# Altium footprint library ST-Link-V2.1.PcbLib: 14 footprints
Each footprint in its own frame and in the unit in brackets; x right, y up, seen from the top. Pads: shape width x height; smd on the part's side, far side on the other; paste and mask are expansions set on the pad; w line width, h text height; cw(c..) or ccw(c..) is an arc to the next point about the centre after c.
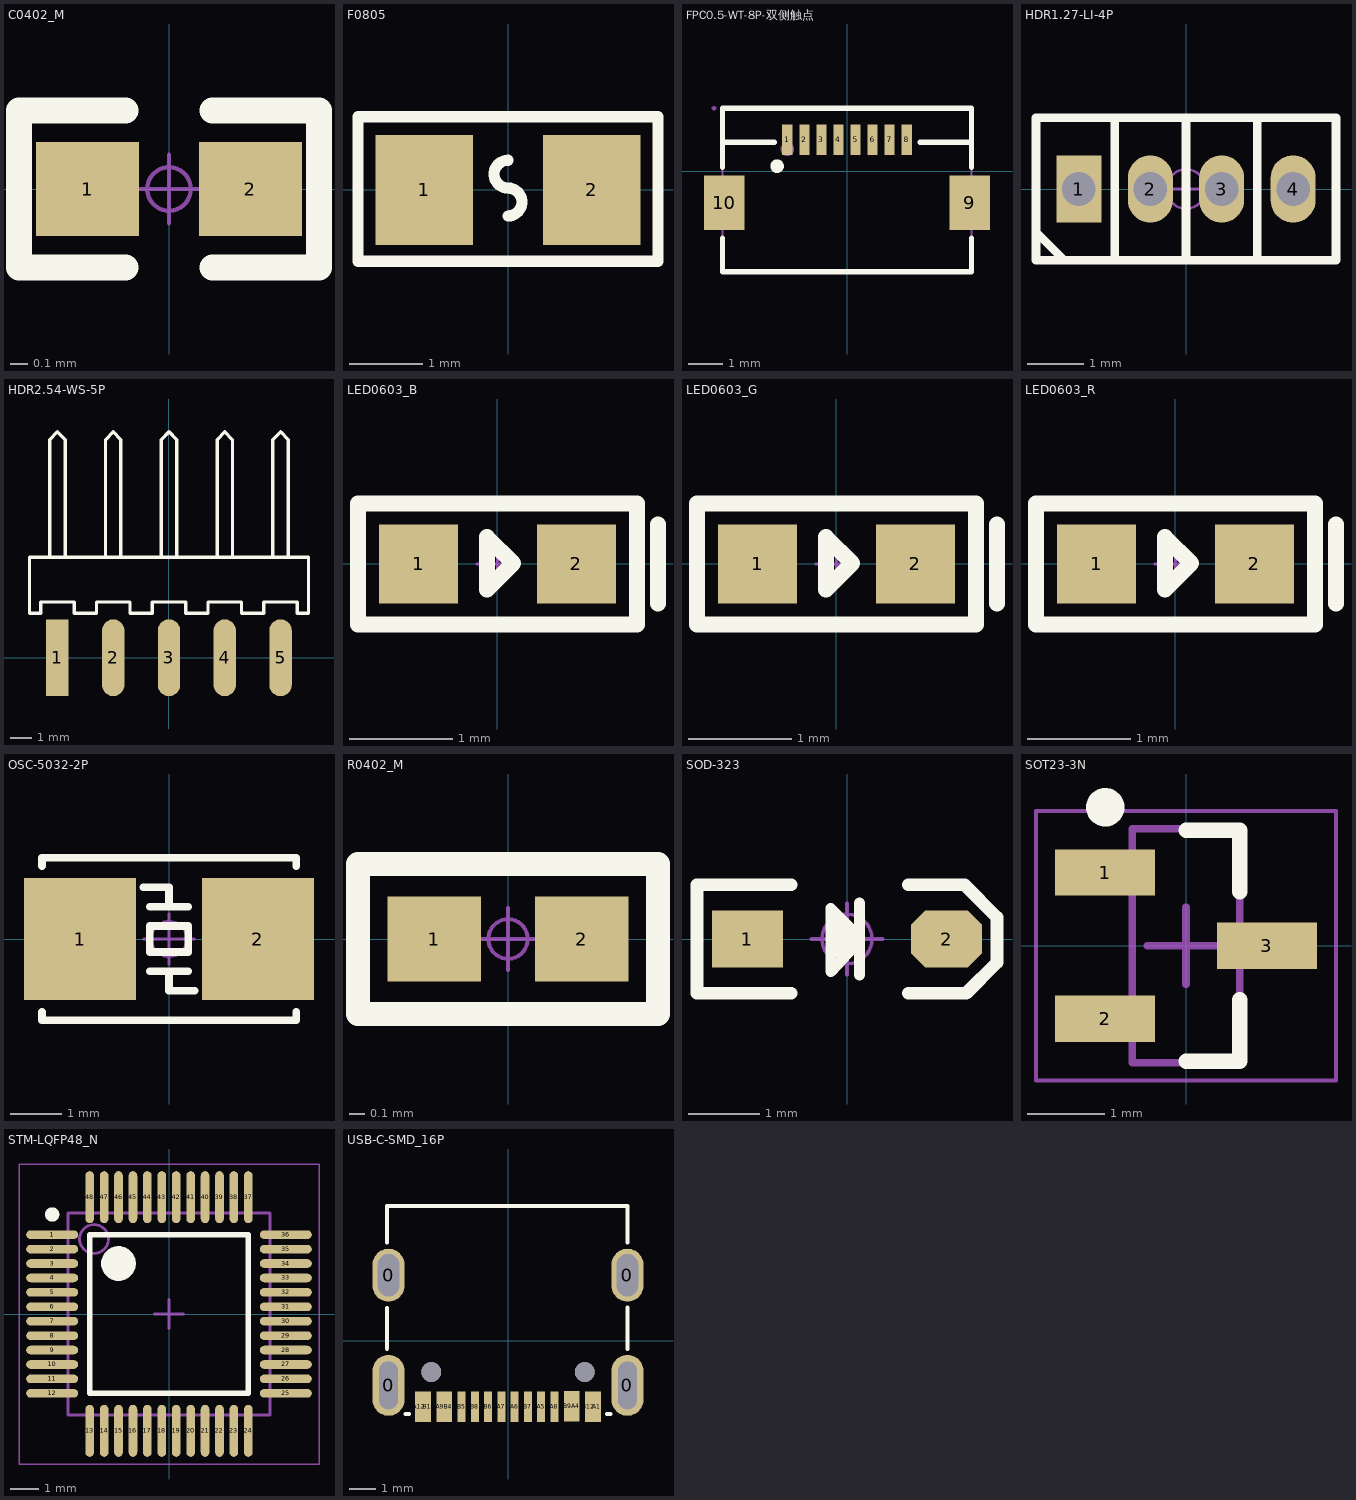
[diagram p0: the footprints below, top view; thin cyan lines are the x and y axes]

## C0402_M [mm] "贴片MLCC电容"
pads (2):
  rect 0.6x0.55 smd: 1(-0.475,0) 2(0.475,0)
Top Overlay:
  lines w0.152: -0.254,-0.457 -0.875,-0.457 -0.875,0.457 -0.254,0.457 ; 0.254,-0.457 0.875,-0.457 0.875,0.457 0.254,0.457
Mechanical 15:
  circle w0.025: c0,0 r0.127
  lines w0.025: -0.2,0 0.2,0 ; 0,-0.2 0,0.2
3D body "C0402-B-2S.stp": height 0.5, standoff 0, extent -0.5,-0.25 0.5,0.25

## F0805 [mm] "0805贴片自恢复保险丝(PPTC)   联系卖家 免费查找封装"
pads (2):
  rect 1.335x1.5 smd: 1(-1.142,0) 2(1.142,0)
Top Overlay:
  lines w0.152: 0,-0.356 ccw(c0,-0.166) 0,0.025 cw(c0,0.215) 0,0.406 ; -2.05,-0.975 2.05,-0.975 2.05,1 -2.05,1 -2.05,-0.975
3D body "FUSE0805-2.stp": height 0.8, standoff 0, extent -1.05,-0.7 1.05,0.7

## FPC0.5-WT-8P-双侧触点 [mm] "翻盖式 双侧触点/上下接 编带"
pads (10):
  rect 0.3x0.9 smd paste+0 mask+0.05: 1(-1.75,0.925) 2(-1.25,0.925) 3(-0.75,0.925) 4(-0.25,0.925) 5(0.25,0.925) 6(0.75,0.925) 7(1.25,0.925) 8(1.75,0.925)
  rect 1.2x1.6 smd paste+0 mask+0.05: 9(3.6,-0.925) 10(-3.6,-0.925)
Top Overlay:
  circle w0.2: c-2.05,0.15 r0.1
  lines w0.152: -3.65,-1.956 -3.65,-2.95 3.65,-2.95 3.65,-1.956 ; -3.65,0.106 -3.65,1.85 3.65,1.85 3.65,0.106 ; -3.65,0.85 -2.131,0.85 ; 2.14,0.85 3.65,0.85
Mechanical 6:
  circle w0.2: c-1.75,0.65 r0.1
Mechanical 15:
  region: -3.84,1.85 -3.84,1.875 -3.875,1.91 -3.925,1.91 -3.96,1.875 -3.96,1.85 -3.96,1.825 -3.925,1.79 -3.875,1.79 -3.84,1.825 -3.84,1.85
  region: 1.675,1.16 1.825,1.16 1.825,0.56 1.675,0.56
  region: 1.175,1.16 1.325,1.16 1.325,0.56 1.175,0.56
  region: 0.675,1.16 0.825,1.16 0.825,0.56 0.675,0.56
  region: 0.175,1.16 0.325,1.16 0.325,0.56 0.175,0.56
  region: -0.325,1.16 -0.175,1.16 -0.175,0.56 -0.325,0.56
  region: -0.825,1.16 -0.675,1.16 -0.675,0.56 -0.825,0.56
  region: -1.325,1.16 -1.175,1.16 -1.175,0.56 -1.325,0.56
  region: -1.825,1.16 -1.675,1.16 -1.675,0.56 -1.825,0.56
  region: -3.3,-1.425 -3.9,-1.425 -3.9,-0.425 -3.3,-0.425
  region: 3.9,-1.425 3.3,-1.425 3.3,-0.425 3.9,-0.425
  lines w0.051: -3.65,-2.95 -3.65,1.85 3.65,1.85 3.65,-2.95 -3.65,-2.95
3D body "FPC0.5-WT-8P-双侧触点.STEP": height 1.26, standoff 0.05, extent -3.9,-2.95 3.9,1.85

## HDR1.27-LI-4P [mm] "直插，脚距：1.27mm  封装库来自淘宝卖家 ID：黄晶宝石"
pads (4):
  rect 0.8x1.2 hole 0.6: 1(-1.905,0)
  oval 0.8x1.2 hole 0.6: 2(-0.635,0) 3(0.635,0) 4(1.905,0)
Top Overlay:
  lines w0.152: -2.667,-0.762 -2.159,-1.27 ; -1.27,-1.27 -1.27,1.27 ; 0,-1.27 0,1.2 ; 1.27,-1.2 1.27,1.27 ; -2.667,-1.27 2.667,-1.27 2.667,1.27 -2.667,1.27 -2.667,-1.27
Mechanical 15:
  circle w0.05: c0,0 r0.35
  lines w0.05: -0.5,0 0.5,0 ; 0,-0.5 0,0.5
3D body "HDR1_27-LI-4P.STEP": height 4.48, standoff -2.72, extent -2.54,-1.2 2.54,1.2

## HDR2.54-WS-5P [mm] "5P卧式贴片排针2.54"
pads (5):
  rect 1.02x3.5 smd: 1(-5.08,0)
  oval 1.02x3.5 smd: 2(-2.54,0) 3(0,0) 4(2.54,0) 5(5.08,0)
Top Overlay:
  lines w0.152: -5.43,4.572 -5.43,9.8 -5.43,9.937 -5.08,10.287 -4.73,9.937 -4.73,9.8 -4.73,4.572 ; -2.89,4.572 -2.89,9.8 -2.89,9.937 -2.54,10.287 -2.19,9.937 -2.19,9.8 -2.19,4.572 ; -0.35,4.572 -0.35,9.8 -0.35,9.937 0,10.287 0.35,9.937 0.35,9.8 0.35,4.572 ; 2.19,4.572 2.19,9.8 2.19,9.937 2.54,10.287 2.89,9.937 2.89,9.8 2.89,4.572 ; 4.73,4.572 4.73,9.8 4.73,9.937 5.08,10.287 5.43,9.937 5.43,9.8 5.43,4.572 ; -6.35,2.032 -6.35,4.572 -3.81,4.572 -1.27,4.572 1.27,4.572 3.81,4.572 6.35,4.572 6.35,2.032 5.842,2.032 5.842,2.54 5.588,2.54 4.318,2.54 4.318,2.032 3.81,2.032 3.302,2.032 3.302,2.54 3.048,2.54 1.778,2.54 1.778,2.032 1.27,2.032 0.762,2.032 0.762,2.54 0.508,2.54 -0.762,2.54 -0.762,2.032 -1.27,2.032 -1.778,2.032 -1.778,2.54 -2.032,2.54 -3.302,2.54 -3.302,2.032 -3.81,2.032 -4.318,2.032 -4.318,2.54 -4.572,2.54 -5.842,2.54 -5.842,2.032 -6.35,2.032
3D body "HDR2.54 S-W-1P.STEP": height 2.59, standoff 0.05, extent -3.81,-0.762 -1.27,10.338
3D body "HDR2.54 S-W-1P.STEP": height 2.59, standoff 0.05, extent -6.35,-0.762 -3.81,10.338
3D body "HDR2.54 S-W-1P.STEP": height 2.59, standoff 0.05, extent 1.27,-0.762 3.81,10.338
3D body "HDR2.54 S-W-1P.STEP": height 2.59, standoff 0.05, extent -1.27,-0.762 1.27,10.338
3D body "HDR2.54 S-W-1P.STEP": height 2.59, standoff 0.05, extent 3.81,-0.762 6.35,10.338

## LED0603_B [mil] "蓝色0603LED"
pads (2):
  rect 30x30 smd: 1(-30,0) 2(30,0)
Top Overlay:
  lines w6: 61,-15 61,15 ; -53,-23 53,-23 53,23 -53,23 -53,-23 ; -4,-9.75 -4,10.25 6,0.25 -4,-9.75
Mechanical 15:
  circle w1: c0,0 r5
  lines w1: -7.88,0 7.87,0 ; 0,-7.88 0,7.87
3D body "LED 0603玻璃罩.": height 0, standoff 0, extent 0,0 0,0
3D body "LED_0603-B.STEP": height 18.36, standoff -0.04, extent -31.49,-15.79 31.5,15.79

## LED0603_G [mil] "绿色0603LED"
pads (2):
  rect 30x30 smd: 1(-30,0) 2(30,0)
Top Overlay:
  lines w6: 61,-15 61,15 ; -53,-23 -53,23 53,23 53,-23 -53,-23 ; -4,-9.75 6,0.25 -4,10.25 -4,-9.75
Mechanical 15:
  circle w1: c0,0 r5
  lines w1: -7.87,0 7.87,0 ; 0,-7.87 0,7.87
3D body "LED_0603-G(1).STEP": height 18.36, standoff -0.04, extent -31.5,-15.79 31.5,15.79
3D body "LED 0603玻璃罩.": height 0, standoff 0, extent 0,0 0,0

## LED0603_R [mil] "红色0603LED"
pads (2):
  rect 30x30 smd: 1(-30,0) 2(30,0)
Top Overlay:
  lines w6: 61,-15 61,15 ; -53,-23 53,-23 53,23 -53,23 -53,-23 ; -4,-9.75 -4,10.25 6,0.25 -4,-9.75
Mechanical 15:
  circle w1: c0,0 r5
  lines w1: -7.88,0 7.87,0 ; 0,-7.88 0,7.87
3D body "LED 0603玻璃罩.": height 0, standoff 0, extent 0,0 0,0
3D body "LED_0603-R.STEP": height 18.36, standoff -0.04, extent -31.49,-15.78 31.5,15.8

## OSC-5032-2P [mm] "5mm*3.2mm*0.8mm(长*宽*高)"
pads (2):
  rect 2.2x2.4 smd: 1(-1.75,0) 2(1.75,0)
Top Overlay:
  lines w0.152: -2.5,-1.437 -2.5,-1.6 2.5,-1.6 2.5,-1.437 ; -2.5,1.437 -2.5,1.6 2.5,1.6 2.5,1.437 ; -0.508,1.016 0,1.016 0,0.635 ; -0.381,-0.635 0.381,-0.635 ; -0.381,0.635 0.381,0.635 ; 0,-0.635 0,-1.016 0.381,-1.016 0.508,-1.016 ; -0.381,-0.254 0.381,-0.254 0.381,0.254 -0.381,0.254 -0.381,-0.254
Mechanical 15:
  circle w0.05: c0,0 r0.35
  lines w0.05: -0.5,0 0.5,0 ; 0,-0.5 0,0.5
3D body "OSC_5032-2.STEP": height 0.86, standoff 0.04, extent -2.5,-1.6 2.5,1.6

## R0402_M [mm] "1/16W贴片电阻"
pads (2):
  rect 0.6x0.55 smd: 1(-0.475,0) 2(0.475,0)
Top Overlay:
  lines w0.152: -0.965,-0.483 -0.965,0.483 0.965,0.483 0.965,-0.483 -0.965,-0.483
Mechanical 15:
  circle w0.025: c0,0 r0.127
  lines w0.025: -0.2,0 0.2,0 ; 0,-0.2 0,0.2
3D body "R0402.STEP": height 0.3, standoff 0, extent -0.5,-0.25 0.5,0.25

## SOD-323 [mm] "1.8x1.3X0.9mm（长宽高，不包括引脚）联系卖家 免费查找封装"
pads (2):
  rect 1x0.8 smd: 1(-1.4,0)
  oct 1x0.8 smd: 2(1.4,0)
Top Overlay:
  lines w0.152: -0.127,0.254 -0.152,-0.178 0.025,-0.025 -0.025,0.127 ; 0.178,-0.508 0.178,0.508 ; 0.178,-0.025 -0.229,-0.457 -0.229,0.432 0.178,0.025
  lines w0.178: -0.787,-0.762 -2.108,-0.762 -2.108,0.762 -0.787,0.762 ; 0.864,-0.762 1.676,-0.762 2.108,-0.33 2.108,0.305 1.651,0.762 0.864,0.762
Mechanical 15:
  circle w0.05: c0,0 r0.35
  lines w0.05: -0.5,0 0.5,0 ; 0,-0.5 0,0.5
3D body "SOD-323.STEP": height 0.95, standoff 0, extent -1.324,-0.65 1.324,0.65

## SOT23-3N [mm] "SOT23, 3-Leads, Body 2.9x1.3mm, Pitch 0.95mm, Lead Span 2.4mm, IPC Medium Density  联系卖家 免费查找封装"
height 1.12
pads (3):
  rect 1.3x0.6 smd: 1(-1.05,0.95) 2(-1.05,-0.95) 3(1.05,0)
Top Overlay:
  circle w0.25: c-1.05,1.8 r0.125
  lines w0.2: 0,-1.5 0.7,-1.5 0.7,-0.7 ; 0,1.5 0.7,1.5 0.7,0.7
Mechanical 13:
  lines w0.1: -0.7,-1.52 0.7,-1.52 0.7,1.52 -0.7,1.52 -0.7,-1.52
Mechanical 15:
  lines w0.05: -1.95,-1.75 1.95,-1.75 1.95,1.75 -1.95,1.75 -1.95,-1.75
  lines w0.1: -0.5,0 0.5,0 ; 0,-0.5 0,0.5
3D body "SOT23-3-2.STEP": height 1.05, standoff 0, extent -1.2,-1.5 1.2,1.5

## STM-LQFP48_N [mm] "QFP, 48-Leads, Body 7x7mm, Pitch 0.5mm, IPC Medium Density封装库来自淘宝 ID：黄晶宝石"
height 1.6
pads (48):
  oval 1.8x0.3 smd: 1(-4.05,2.75) 2(-4.05,2.25) 3(-4.05,1.75) 4(-4.05,1.25) 5(-4.05,0.75) 6(-4.05,0.25) 7(-4.05,-0.25) 8(-4.05,-0.75) 9(-4.05,-1.25) 10(-4.05,-1.75) 11(-4.05,-2.25) 12(-4.05,-2.75) 25(4.05,-2.75) 26(4.05,-2.25) 27(4.05,-1.75) 28(4.05,-1.25) 29(4.05,-0.75) 30(4.05,-0.25) 31(4.05,0.25) 32(4.05,0.75) 33(4.05,1.25) 34(4.05,1.75) 35(4.05,2.25) 36(4.05,2.75)
  oval 0.3x1.8 smd: 13(-2.75,-4.05) 14(-2.25,-4.05) 15(-1.75,-4.05) 16(-1.25,-4.05) 17(-0.75,-4.05) 18(-0.25,-4.05) 19(0.25,-4.05) 20(0.75,-4.05) 21(1.25,-4.05) 22(1.75,-4.05) 23(2.25,-4.05) 24(2.75,-4.05) 37(2.75,4.05) 38(2.25,4.05) 39(1.75,4.05) 40(1.25,4.05) 41(0.75,4.05) 42(0.25,4.05) 43(-0.25,4.05) 44(-0.75,4.05) 45(-1.25,4.05) 46(-1.75,4.05) 47(-2.25,4.05) 48(-2.75,4.05)
Top Overlay:
  circle w0.25: c-4.05,3.45 r0.125
  circle w0.6: c-1.75,1.75 r0.3
  lines w0.2: -2.75,-2.75 -2.75,2.75 2.75,2.75 2.75,-2.75 -2.75,-2.75
Mechanical 13:
  circle w0.1: c-2.6,2.6 r0.5
  lines w0.1: -3.5,-3.5 -3.5,3.5 3.5,3.5 3.5,-3.5 -3.5,-3.5
Mechanical 15:
  lines w0.05: -5.2,-5.2 -5.2,5.2 5.2,5.2 5.2,-5.2 -5.2,-5.2
  lines w0.1: -0.5,0 0.5,0 ; 0,-0.5 0,0.5
3D body "LQFP48-7x7.STEP": height 1.45, standoff 0, extent -4.503,-4.503 4.503,4.503

## USB-C-SMD_16P [mm] "封装库来自淘宝ID:黄晶宝石"
pads (22):
  oval 1.2x2.3 hole 0.7 slot 1.8 at 90 deg: 0(-4.5,-1.675) 0(4.5,-1.675)
  oval 1.2x2 hole 0.8 slot 1.6 at 90 deg: 0(-4.5,2.475) 0(4.5,2.475)
  rect 0.3x1.15 smd: A1(3.35,-2.473) A4(2.55,-2.471) A5(1.25,-2.475) A6(0.25,-2.475) A7(-0.25,-2.473) A9(-2.55,-2.475) A12(-3.35,-2.475) B1(-3.05,-2.475) B4(-2.25,-2.475) B5(-1.75,-2.475) B6(-0.75,-2.475) B7(0.75,-2.473) B9(2.25,-2.471) B12(3.05,-2.473)
  rect 0.3x1.148 smd: A8(1.75,-2.475) B8(-1.25,-2.475)
  round 0.75 hole 0.75 unplated: ""(-2.89,-1.175) ""(2.89,-1.175)
Top Overlay:
  lines w0.152: -4.557,-0.296 -4.557,1.246 ; -4.557,3.704 -4.557,5.075 4.5,5.075 4.5,3.698 ; -3.856,-2.75 -3.819,-2.75 -3.731,-2.75 ; 3.731,-2.75 3.856,-2.75 ; 4.5,-0.302 4.5,1.252
3D body "USB_TYPE-C_a.STEP": height 3.25, standoff -0.85, extent -4.445,-2.875 4.495,5.025